# Altium integrated library TSW-108-05-G-S.IntLib: 1 symbol
Pins are listed as number, name and electrical type; pins without a type are passive.

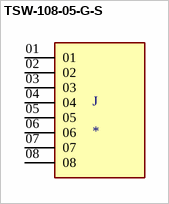
[diagram p0: symbol TSW-108-05-G-S]

## TSW-108-05-G-S
designator J
MP: TSW-108-05-G-S; MF: Samtec; Value: *; Package: None; Price: None; Availability: Unavailable
footprint SAMTEC_TSW-108-05-G-S
pins: 01, 02, 03, 04, 05, 06, 07, 08